# Altium footprint library PcbLib1.PcbLib: 6 footprints
Each footprint in its own frame and in the unit in brackets; x right, y up, seen from the top. Pads: shape width x height; smd on the part's side, far side on the other; paste and mask are expansions set on the pad; w line width, h text height; cw(c..) or ccw(c..) is an arc to the next point about the centre after c.
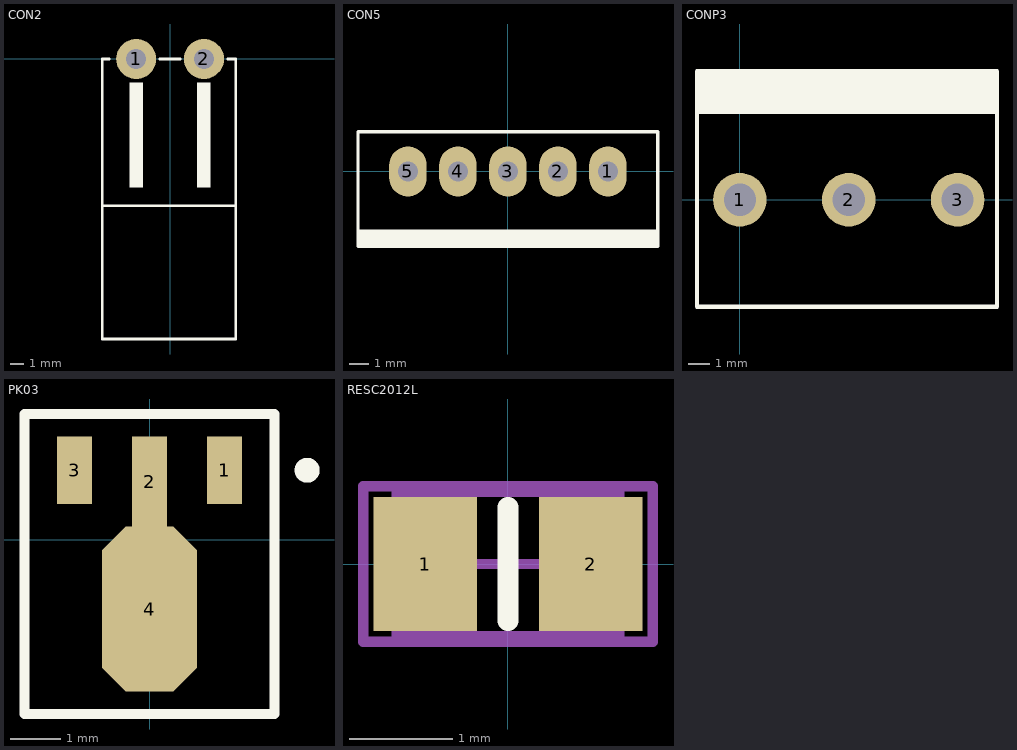
[diagram p0: the footprints below, top view; thin cyan lines are the x and y axes]

## CON2 [mm]
pads (2):
  round 3 hole 1.5: 1(-2.54,0) 2(2.54,0)
Top Overlay:
  rectangle: 2.032,-9.652 3.048,-1.778
  rectangle: -3.048,-9.652 -2.032,-1.778
  lines w0.2: -5.08,-11 4.92,-11 ; -4.572,0 -5.08,0 -5.08,-21 4.92,-21 4.92,0 4.318,0 ; -0.762,0 0.762,0

## CON5 [mm]
pads (5):
  oval 1.905x2.54 hole 1: 1(5.08,0) 2(2.54,0) 3(0,0) 4(-2.54,0) 5(-5.08,0)
Top Overlay:
  rectangle: -7.619,-3.81 7.621,-3.048
  lines w0.178: -7.62,-3.048 7.62,-3.048 ; -7.62,-3.81 -7.62,2.032 7.62,2.032 7.62,-3.81 -7.62,-3.81

## CONP3 [mm]
pads (3):
  round 2.5 hole 1.5: 1(0,0) 2(5.08,0) 3(10.16,0)
Top Overlay:
  rectangle: -2,4 12,6
  lines w0.2: -2,-5 -2,0 -2,6 12,6 12,0 12,-5 -2,-5

## PCBComponent_1 [mm]

## PK03 [mm] "SOT-89; Body 4.6 x 4.25 mm, inc. leads (LxW max)"
height 1.6
pads (4):
  rect 0.7x1.35 smd: 1(1.5,1.388) 3(-1.5,1.388)
  rect 0.7x1.8 smd: 2(0,1.162)
  oct 1.9x3.3 smd: 4(0,-1.388)
Top Overlay:
  circle w0.25: c3.15,1.388 r0.125
  lines w0.2: -2.5,-3.487 -2.5,2.512 2.5,2.512 2.5,-3.487 -2.5,-3.487

## RESC2012L [mm] "Chip Resistor, Body 2.0x1.3mm, IPC High Density"
height 0.65
pads (2):
  rect 1x1.3 smd: 1(-0.8,0) 2(0.8,0)
Top Overlay:
  lines w0.2: 0,-0.55 0,0.55
Mechanical 13:
  lines w0.1: -1.075,-0.7 1.075,-0.7 1.075,0.7 -1.075,0.7 -1.075,-0.7
Mechanical 15:
  lines w0.1: -0.5,0 0.5,0 ; 0,-0.5 0,0.5 ; -1.4,-0.75 1.4,-0.75 1.4,0.75 -1.4,0.75 -1.4,-0.75
3D body: height 0.65, standoff 0, extent -1.075,-0.7 1.075,0.7